# Altium schematic symbol library 0436501200.SchLib: 1 symbol
Pins are listed as number, name and electrical type; pins without a type are passive.

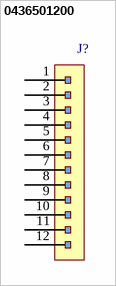
[diagram p0: symbol 0436501200]

## 0436501200
designator J?
= Description
pins: 1, 2, 3, 4, 5, 6, 7, 8, 9, 10, 11, 12